# EAGLE library part UNICS-CONNECTOR-6B-EH (library cansat-lib)
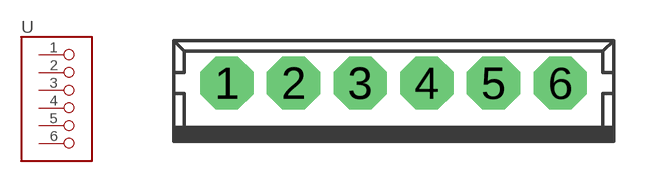
[diagram p13: symbol with the pads of UNICS-CONNECTOR-6B-EH; footprint UNICS-CONNECTOR-6B-EH]

Designator prefix -

## UNICS-CONNECTOR-6B-EH  [UNICS-CONNECTOR-6B-EH]
1  1
2  2
3  3
4  4
5  5
6  6

## Footprint UNICS-CONNECTOR-6B-EH (pad centres in mm)
drill 1 pad 2 octagon: 1 -6.25,0; 2 -3.75,0; 3 -1.25,0; 4 1.25,0; 5 3.75,0; 6 6.25,0